# Altium integrated library WPN4020H2R2MT.IntLib: 1 symbol
Pins are listed as number, name and electrical type; pins without a type are passive.

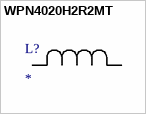
[diagram p0: symbol WPN4020H2R2MT]

## WPN4020H2R2MT
designator L?
No Description Available; Mfr_Name: Sunlord; Type: Fixed Inductors
footprint IND_WPN4020H_SNL
pins: 1, 2